# Altium footprint library EW-22-14-T-S-990.PcbLib: 1 footprints
Each footprint in its own frame and in the unit in brackets; x right, y up, seen from the top. Pads: shape width x height; smd on the part's side, far side on the other; paste and mask are expansions set on the pad; w line width, h text height; cw(c..) or ccw(c..) is an arc to the next point about the centre after c.
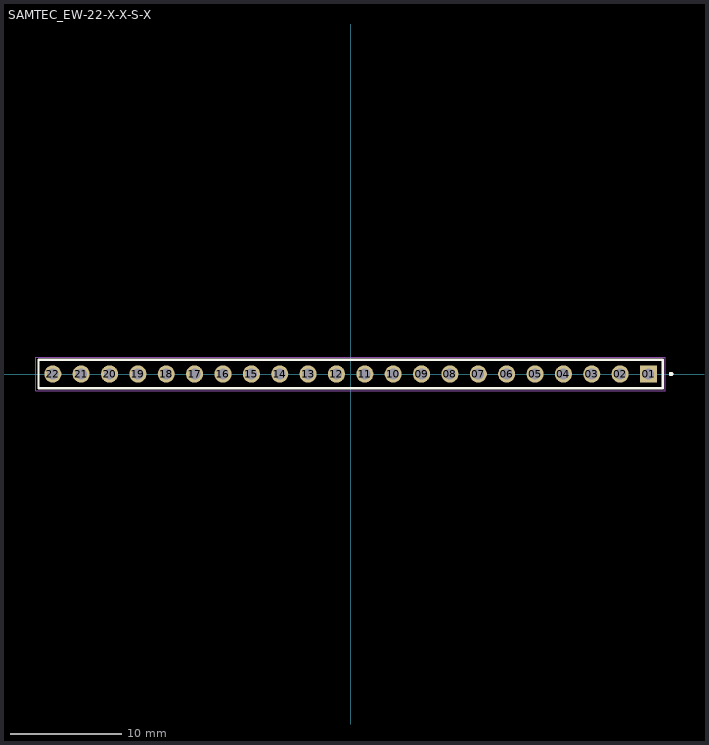
[diagram p0: the footprint, top view; thin cyan lines are the x and y axes]

## SAMTEC_EW-22-X-X-S-X [mm]
pads (22):
  rect 1.53x1.53 hole 1.02: 01(26.67,0)
  round 1.53 hole 1.02: 02(24.13,0) 03(21.59,0) 04(19.05,0) 05(16.51,0) 06(13.97,0) 07(11.43,0) 08(8.89,0) 09(6.35,0) 10(3.81,0) 11(1.27,0) 12(-1.27,0) 13(-3.81,0) 14(-6.35,0) 15(-8.89,0) 16(-11.43,0) 17(-13.97,0) 18(-16.51,0) 19(-19.05,0) 20(-21.59,0) 21(-24.13,0) 22(-26.67,0)
Top Overlay:
  circle w0.2: c28.69,0 r0.1
  lines w0.2: -27.94,-1.27 -27.94,1.27 27.94,1.27 27.94,-1.27 -27.94,-1.27
Mechanical 13:
  circle w0.2: c28.69,0 r0.1
  lines w0.1: -27.94,-1.27 -27.94,1.27 27.94,1.27 27.94,-1.27 -27.94,-1.27
Mechanical 15:
  lines w0.05: -28.19,-1.52 28.19,-1.52 28.19,1.52 -28.19,1.52 -28.19,-1.52